# Altium schematic symbol library IC_BTM51x.SchLib: 1 symbol
Pins are listed as number, name and electrical type; pins without a type are passive.

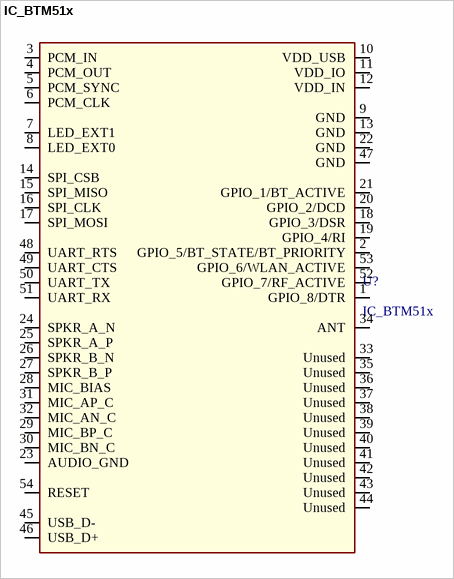
[diagram p0: symbol IC_BTM51x]

## IC_BTM51x
designator U?
pins: 1 GPIO_8/DTR, 2 GPIO_5/BT_STATE/BT_PRIORITY, 3 PCM_IN, 4 PCM_OUT, 5 PCM_SYNC, 6 PCM_CLK, 7 LED_EXT1, 8 LED_EXT0, 9 GND, 10 VDD_USB, 11 VDD_IO, 12 VDD_IN, 13 GND, 14 SPI_CSB, 15 SPI_MISO, 16 SPI_CLK, 17 SPI_MOSI, 18 GPIO_3/DSR, 19 GPIO_4/RI, 20 GPIO_2/DCD, 21 GPIO_1/BT_ACTIVE, 22 GND, 23 AUDIO_GND, 24 SPKR_A_N, 25 SPKR_A_P, 26 SPKR_B_N, 27 SPKR_B_P, 28 MIC_BIAS, 29 MIC_BP_C, 30 MIC_BN_C, 31 MIC_AP_C, 32 MIC_AN_C, 33 Unused, 34 ANT, 35 Unused, 36 Unused, 37 Unused, 38 Unused, 39 Unused, 40 Unused, 41 Unused, 42 Unused, 43 Unused, 44 Unused, 45 USB_D-, 46 USB_D+, 47 GND, 48 UART_RTS, 49 UART_CTS, 50 UART_TX, 51 UART_RX, 52 GPIO_7/RF_ACTIVE, 53 GPIO_6/WLAN_ACTIVE, 54 RESET